# Altium schematic symbol library 晶振.SchLib: 2 symbols
Pins are listed as number, name and electrical type; pins without a type are passive.

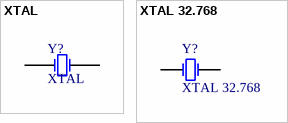
[diagram p0: symbols XTAL to XTAL 32.768]

## XTAL
designator Y?
footprint HC-49S
pins: 1, 2

## XTAL 32.768
designator Y?
footprint AT26
pins: 1, 2